# Altium integrated library Analog Devices Data Converters Digital-to-Analog Converters.IntLib: 2231 symbols (part 153 of 181)
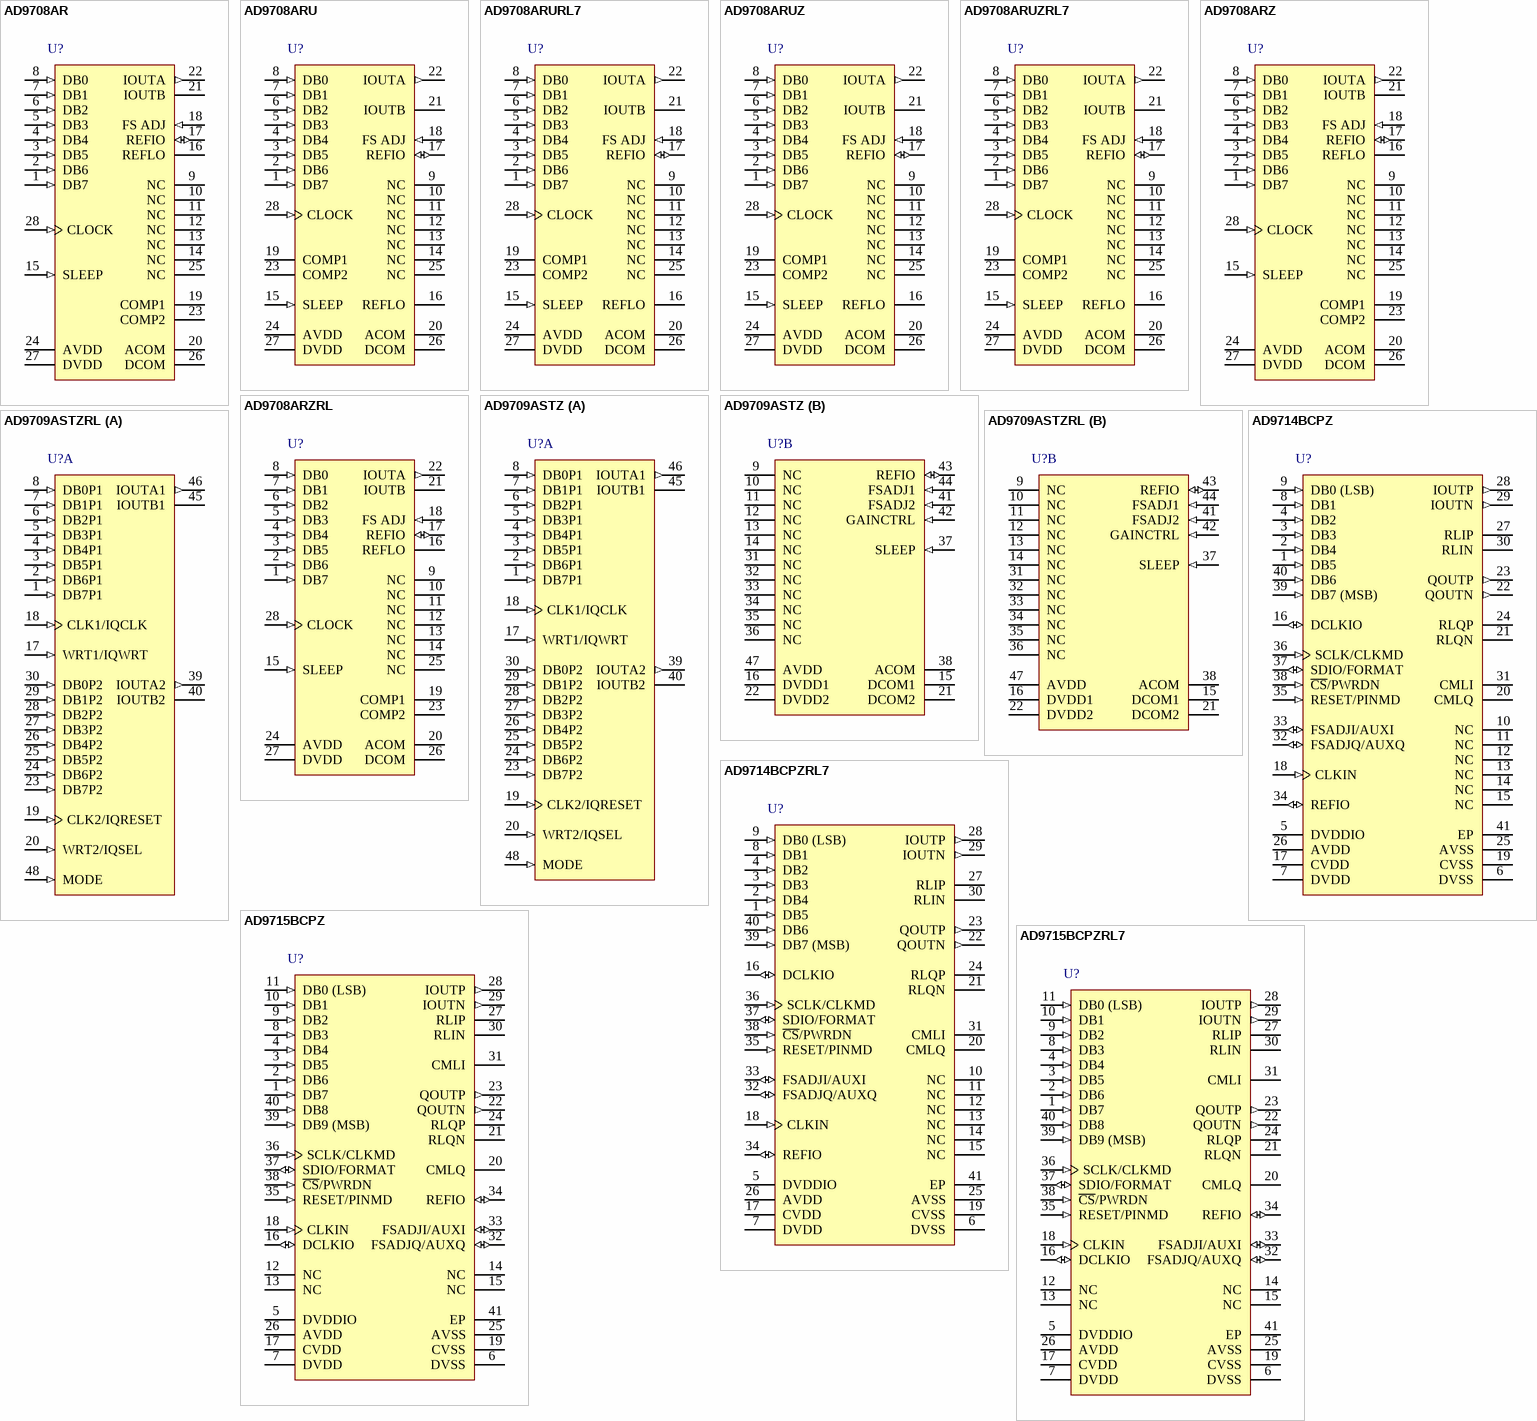
[diagram p266: symbols AD9708AR to AD9715BCPZRL7]

## AD9715BCPZRL7
designator U?
Dual Low Power 10-Bit TxDAC, 0 to +70 degC, CP-40-1, Pb-Free, Reel; Generic Part Number: AD9715; Manufacturer: Analog Devices; PartNumber: AD9715BCPZRL7; # DAC Outputs: 2; Max V+: 3.3V; Resolution (Bits): 10; Single Supply: Yes; DatasheetVersion: Rev.A; PackageVersion: Oct-2006; PackageReference: CP-40-1; PackageDescription: 40-Pin Lead Frame Chip Scale Package [LFCSP_VQ] Very Thin Quad; Supplier 1: Digi-Key; Supplier Part Number 1: AD9715BCPZRL7-ND; Supplier 2: Mouser; Supplier Part Number 2: 584-AD9715BCPZR7; Packing: Reel; RoHS: Y; Mounting Technology: Surface Mount; Code_JEDEC: MO-220-VJJD-2; ComponentLink1Description: Manufacturer URL; ComponentLink1URL: http://www.analog.com/en/index.html; ComponentLink2Description: Datasheet; ComponentLink2URL: http://www.analog.com/static/imported-files/data_sheets/AD9714_9715_9716_9717.pdf; ComponentLink3Description: Package Specification; ComponentLink3URL: http://www.analog.com/static/imported-files/packages/PKG_PDF/LFCSP(CP)/CP_40_1.pdf; ComponentLink4Description: Product URL; ComponentLink4URL: http://www.analog.com/en/digital-to-analog-converters/da-converters/ad9715/products/product.html
footprint CP-40-1_N (QFN, 40-Leads, Body 6x6mm, Pitch 0.5mm, Thermal Pad 4.3x4.3mm, IPC Medium Density)
footprint CP-40-1_L (QFN, 40-Leads, Body 6x6mm, Pitch 0.5mm, Thermal Pad 4.3x4.3mm, IPC High Density)
footprint CP-40-1_M (QFN, 40-Leads, Body 6x6mm, Pitch 0.5mm, Thermal Pad 4.3x4.3mm, IPC Low Density)
pins: 1 DB7 (in) "Digital Input.", 2 DB6 (in) "Digital Input.", 3 DB5 (in) "Digital Input.", 4 DB4 (in) "Digital Input.", 5 DVDDIO (power) "Digital I/O Supply Voltage (1.8 V to 3.3 V Nominal).", 6 DVSS (power) "Digital Common.", 7 DVDD (power) "Digital Core Supply Voltage (1.8 V). Strap DVDD to DVDDIO at 1.8 V. If DVDDIO > 1.8 V, bypass DVDD with a 1.0 uF capacitor; however, do not otherwise connect it. The LDO should not drive external loads.", 8 DB3 (in) "Digital Input.", 9 DB2 (in) "Digital Input.", 10 DB1 (in) "Digital Input.", 11 DB0 (LSB) (in) "Digital Input (LSB).", 12 NC "No Connect. These pins are not connected to the chip.", 13 NC "No Connect. These pins are not connected to the chip.", 14 NC "No Connect. These pins are not connected to the chip.", 15 NC "No Connect. These pins are not connected to the chip.", 16 DCLKIO (io) "Data Input/Output Clock. Clock used to qualify input data.", 17 CVDD (power) "Sampling Clock Supply Voltage (1.8 V to 3.3 V). CVDD must be >= DVDD.", 18 CLKIN (in) "LVCMOS Sampling Clock Input.", 19 CVSS (power) "Sampling Clock Supply Voltage Common.", 20 CMLQ "Q DAC Output Common-Mode Level. When the internal on chip (QRCML) is enabled, this pin is connected to the on-chip QRCML resistor. It is recommended to leave this pin unconnected. When the internal on chip (QRCML) is (See Datasheet)", 21 RLQN "Load Resistor (500 ohm) to the CMLQ Pin. For the internal load resistor to be used, this pin should be tied to QOUTN externally.", 22 QOUTN (out) "Complementary Q DAC Current Output. Full-scale current is sourced when all data bits are 0s.", 23 QOUTP (out) "Q DAC Current Output. Full-scale current is sourced when all data bits are 1s.", 24 RLQP "Load Resistor (500 ohm) to the CMLQ Pin. For the internal load resistor to be used, this pin should be tied to QOUTP externally.", 25 AVSS (power) "Analog Common.", 26 AVDD (power) "Analog Supply Voltage (1.8 V to 3.3 V).", 27 RLIP "Load Resistor (500 ohm) to the CMLI Pin. For the internal load resistor to be used, this pin should be tied to IOUTP externally.", 28 IOUTP (out) "I DAC Current Output. Full-scale current is sourced when all data bits are 1s.", 29 IOUTN (out) "Complementary I DAC Current Output. Full-scale current is sourced when all data bits are 0s.", 30 RLIN "Load Resistor (500 ohm) to the CMLI Pin. For the internal load resistor to be used, this pin should be tied to IOUTN externally.", 31 CMLI "I DAC Output Common-Mode Level. When the internal on chip (IRCML) is enabled, this pin is connected to the on-chip IRCML resistor. It is recommended to leave this pin unconnected. When the internal on chip (IRCML) is (See Datasheet)", 32 FSADJQ/AUXQ (io) "Full-Scale Current Output Adjust (FSADJQ). When the internal on chip (QRSET) is disabled, this pin is the full- scale current output adjust for Q DAC and must be connected to AVSS through a resistor (see the Theory of (See Datasheet)", 33 FSADJI/AUXI (io) "Full-Scale Current Output Adjust (FSADJI). When the internal on chip (IRSET) is disabled, this pin is the full- scale current output adjust for I DAC and must be connected to AVSS through a resistor (see the Theory of (See Datasheet)", 34 REFIO (io) "Reference Input/Output. Serves as a reference input when the internal reference is disabled. Provides a 1.0 V reference output when in internal reference mode (a 0.1 uF capacitor to AVSS is required).", 35 RESET/PINMD (in) "This pin defines the operation mode of the part. A logic low (pull-down to DVSS) sets the part in SPI mode. Pulse RESET high to reset the SPI registers to their default values. A logic high (pull-up to DVDDIO) puts the (See Datasheet)", 36 SCLK/CLKMD (in) "Clock Input for Serial Port (SCLK). In SPI mode, this pin is the clock input for the serial port. Clock Mode (CLKMD). In pin mode, CLKMD determines the phase of the internal retiming clock. When DCLKIO = CLKIN, tie it to 0. (See Datasheet)", 37 SDIO/FORMAT (io) "Serial Port Input/Output (SDIO). In SPI mode, this pin is the bidirectional data line for the serial port. Format Pin (FORMAT). In pin mode, FORMAT determines the data format of digital data. A logic low (pull-down to DVSS) (See Datasheet)", 38 ~{CS}/PWRDN (in) "Active Low Chip Select (C\S\). In SPI mode, this pin serves as the active low chip select. Power-Down (PWRDN). In pin mode, a logic high (pull-up to DVDDIO) powers down the device, except for the SPI port.", 39 DB9 (MSB) (in) "Digital Input (MSB).", 40 DB8 (in) "Digital Input.", 41 EP (power) "The exposed pad is connected to AVSS and should be soldered to the ground plane. Exposed metal at the package corners is connected to this pad."

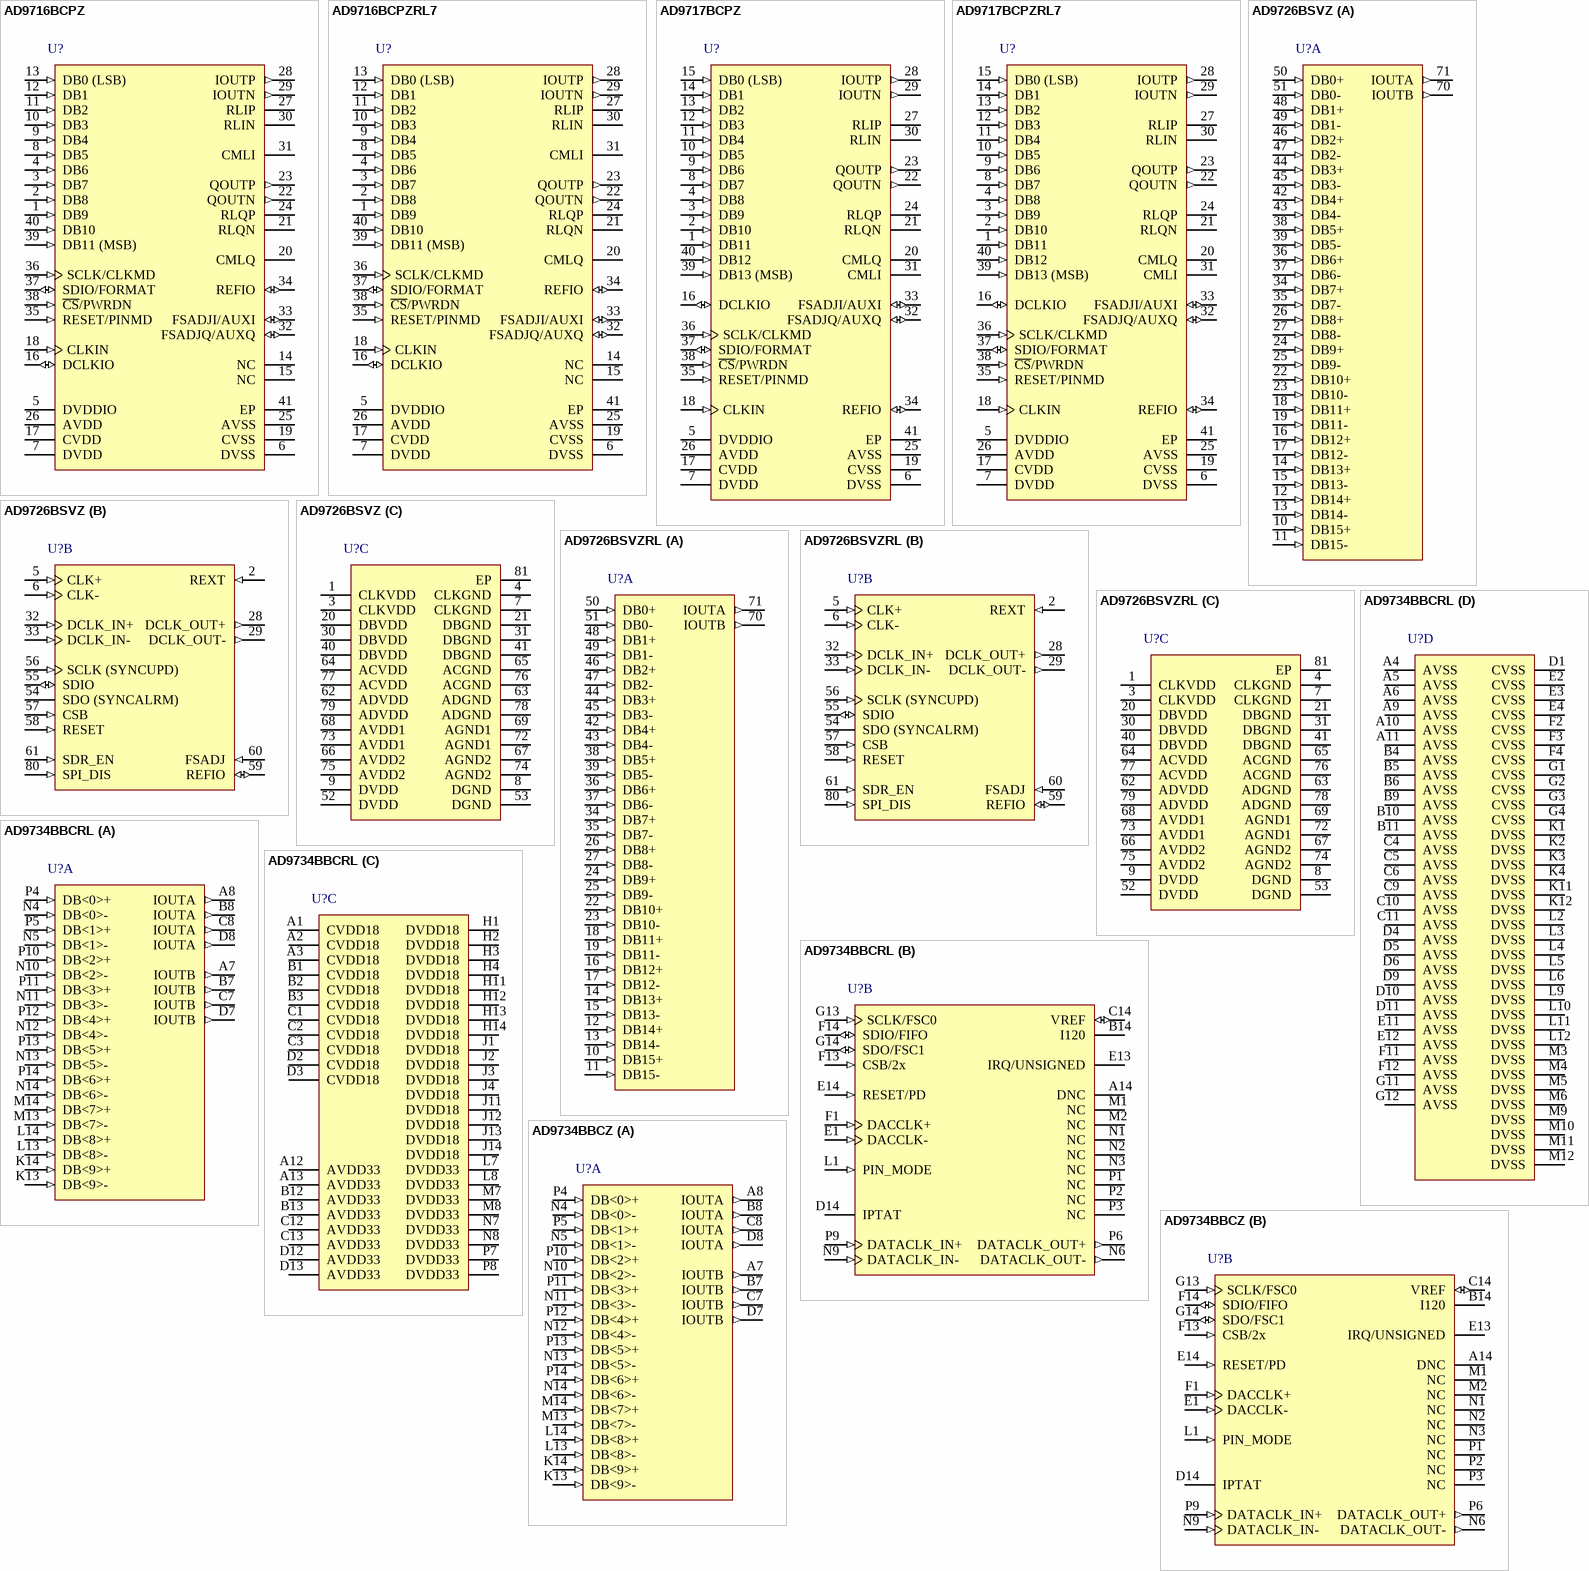
[diagram p88: symbols AD9716BCPZ to AD9734BBCZ]

## AD9716BCPZ
designator U?
Dual 12-Bit TxDAC, 0 to +70 degC, CP-40-1, Pb-Free, Tray; Generic Part Number: AD9716; Manufacturer: Analog Devices; PartNumber: AD9716BCPZ; # DAC Outputs: 2; Max V+: 3.3V; Resolution (Bits): 12; Single Supply: Yes; DatasheetVersion: Rev.A; PackageVersion: Oct-2006; PackageReference: CP-40-1; PackageDescription: 40-Pin Lead Frame Chip Scale Package [LFCSP_VQ] Very Thin Quad; Supplier 1: Digi-Key; Supplier Part Number 1: AD9716BCPZ-ND; Supplier 2: Newark; Supplier Part Number 2: 07P9006; Supplier 3: Mouser; Supplier Part Number 3: 584-AD9716BCPZ; Packing: Tray; RoHS: Y; Mounting Technology: Surface Mount; Code_JEDEC: MO-220-VJJD-2; ComponentLink1Description: Manufacturer URL; ComponentLink1URL: http://www.analog.com/en/index.html; ComponentLink2Description: Datasheet; ComponentLink2URL: http://www.analog.com/static/imported-files/data_sheets/AD9714_9715_9716_9717.pdf; ComponentLink3Description: Package Specification; ComponentLink3URL: http://www.analog.com/static/imported-files/packages/PKG_PDF/LFCSP(CP)/CP_40_1.pdf; ComponentLink4Description: Product URL; ComponentLink4URL: http://www.analog.com/en/digital-to-analog-converters/da-converters/ad9716/products/product.html
footprint CP-40-1_N (QFN, 40-Leads, Body 6x6mm, Pitch 0.5mm, Thermal Pad 4.3x4.3mm, IPC Medium Density)
footprint CP-40-1_L (QFN, 40-Leads, Body 6x6mm, Pitch 0.5mm, Thermal Pad 4.3x4.3mm, IPC High Density)
footprint CP-40-1_M (QFN, 40-Leads, Body 6x6mm, Pitch 0.5mm, Thermal Pad 4.3x4.3mm, IPC Low Density)
pins: 1 DB9 (in) "Digital Input.", 2 DB8 (in) "Digital Input.", 3 DB7 (in) "Digital Input.", 4 DB6 (in) "Digital Input.", 5 DVDDIO (power) "Digital I/O Supply Voltage (1.8 V to 3.3 V Nominal).", 6 DVSS (power) "Digital Common.", 7 DVDD (power) "Digital Core Supply Voltage (1.8 V). Strap DVDD to DVDDIO at 1.8 V. If DVDDIO > 1.8 V, bypass DVDD with a 1.0 uF capacitor; however, do not otherwise connect it. The LDO should not drive external loads.", 8 DB5 (in) "Digital Input.", 9 DB4 (in) "Digital Input.", 10 DB3 (in) "Digital Input.", 11 DB2 (in) "Digital Input.", 12 DB1 (in) "Digital Input.", 13 DB0 (LSB) (in) "Digital Input (LSB).", 14 NC "No Connect. These pins are not connected to the chip.", 15 NC "No Connect. These pins are not connected to the chip.", 16 DCLKIO (io) "Data Input/Output Clock. Clock used to qualify input data.", 17 CVDD (power) "Sampling Clock Supply Voltage (1.8 V to 3.3 V). CVDD must be >= DVDD.", 18 CLKIN (in) "LVCMOS Sampling Clock Input.", 19 CVSS (power) "Sampling Clock Supply Voltage Common.", 20 CMLQ "Q DAC Output Common-Mode Level. When the internal on chip (QRCML) is enabled, this pin is connected to the on-chip QRCML resistor. It is recommended to leave this pin unconnected. When the internal on chip (QRCML) is (See Datasheet)", 21 RLQN "Load Resistor (500 ohm) to the CMLQ Pin. For the internal load resistor to be used, this pin should be tied to QOUTN externally.", 22 QOUTN (out) "Complementary Q DAC Current Output. Full-scale current is sourced when all data bits are 0s.", 23 QOUTP (out) "Q DAC Current Output. Full-scale current is sourced when all data bits are 1s.", 24 RLQP "Load Resistor (500 ohm) to the CMLQ Pin. For the internal load resistor to be used, this pin should be tied to QOUTP externally.", 25 AVSS (power) "Analog Common.", 26 AVDD (power) "Analog Supply Voltage (1.8 V to 3.3 V).", 27 RLIP "Load Resistor (500 ohm) to the CMLI Pin. For the internal load resistor to be used, this pin should be tied to IOUTP externally.", 28 IOUTP (out) "I DAC Current Output. Full-scale current is sourced when all data bits are 1s.", 29 IOUTN (out) "Complementary I DAC Current Output. Full-scale current is sourced when all data bits are 0s.", 30 RLIN "Load Resistor (500 ohm) to the CMLI Pin. For the internal load resistor to be used, this pin should be tied to IOUTN externally.", 31 CMLI "I DAC Output Common-Mode Level. When the internal on chip (IRCML) is enabled, this pin is connected to the on-chip IRCML resistor. It is recommended to leave this pin unconnected. When the internal on chip (IRCML) is (See Datasheet)", 32 FSADJQ/AUXQ (io) "Full-Scale Current Output Adjust (FSADJQ). When the internal on chip (QRSET) is disabled, this pin is the full- scale current output adjust for Q DAC and must be connected to AVSS through a resistor (see the Theory of (See Datasheet)", 33 FSADJI/AUXI (io) "Full-Scale Current Output Adjust (FSADJI). When the internal on chip (IRSET) is disabled, this pin is the full- scale current output adjust for I DAC and must be connected to AVSS through a resistor (see the Theory of (See Datasheet)", 34 REFIO (io) "Reference Input/Output. Serves as a reference input when the internal reference is disabled. Provides a 1.0 V reference output when in internal reference mode (a 0.1 uF capacitor to AVSS is required).", 35 RESET/PINMD (in) "This pin defines the operation mode of the part. A logic low (pull-down to DVSS) sets the part in SPI mode. Pulse RESET high to reset the SPI registers to their default values. A logic high (pull-up to DVDDIO) puts the (See Datasheet)", 36 SCLK/CLKMD (in) "Clock Input for Serial Port (SCLK). In SPI mode, this pin is the clock input for the serial port. Clock Mode (CLKMD). In pin mode, CLKMD determines the phase of the internal retiming clock. When DCLKIO = CLKIN, tie it to 0. (See Datasheet)", 37 SDIO/FORMAT (io) "Serial Port Input/Output (SDIO). In SPI mode, this pin is the bidirectional data line for the serial port. Format Pin (FORMAT). In pin mode, FORMAT determines the data format of digital data. A logic low (pull-down to DVSS) (See Datasheet)", 38 ~{CS}/PWRDN (in) "Active Low Chip Select (C\S\). In SPI mode, this pin serves as the active low chip select. Power-Down (PWRDN). In pin mode, a logic high (pull-up to DVDDIO) powers down the device, except for the SPI port.", 39 DB11 (MSB) (in) "Digital Input (MSB).", 40 DB10 (in) "Digital Input.", 41 EP (power) "The exposed pad is connected to AVSS and should be soldered to the ground plane. Exposed metal at the package corners is connected to this pad."

## AD9716BCPZRL7
designator U?
Dual 12-Bit TxDAC Digital-to-Analog Converte, Low Power, 0 to +70 degC, CP-40-1, Pb-Free, Reel; Generic Part Number: AD9716; Manufacturer: Analog Devices; PartNumber: AD9716BCPZRL7; # DAC Outputs: 2; Max V+: 3.3V; Resolution (Bits): 12; Single Supply: Yes; DatasheetVersion: Rev.A; PackageVersion: Oct-2006; PackageReference: CP-40-1; PackageDescription: 40-Pin Lead Frame Chip Scale Package [LFCSP_VQ] Very Thin Quad; Supplier 1: Digi-Key; Supplier Part Number 1: AD9716BCPZRL7-ND; Supplier 2: Mouser; Supplier Part Number 2: 584-AD9716BCPZR7; Packing: Reel; RoHS: Y; Mounting Technology: Surface Mount; Code_JEDEC: MO-220-VJJD-2; ComponentLink1Description: Manufacturer URL; ComponentLink1URL: http://www.analog.com/en/index.html; ComponentLink2Description: Datasheet; ComponentLink2URL: http://www.analog.com/static/imported-files/data_sheets/AD9714_9715_9716_9717.pdf; ComponentLink3Description: Package Specification; ComponentLink3URL: http://www.analog.com/static/imported-files/packages/PKG_PDF/LFCSP(CP)/CP_40_1.pdf; ComponentLink4Description: Product URL; ComponentLink4URL: http://www.analog.com/en/digital-to-analog-converters/da-converters/ad9716/products/product.html
footprint CP-40-1_N (QFN, 40-Leads, Body 6x6mm, Pitch 0.5mm, Thermal Pad 4.3x4.3mm, IPC Medium Density)
footprint CP-40-1_L (QFN, 40-Leads, Body 6x6mm, Pitch 0.5mm, Thermal Pad 4.3x4.3mm, IPC High Density)
footprint CP-40-1_M (QFN, 40-Leads, Body 6x6mm, Pitch 0.5mm, Thermal Pad 4.3x4.3mm, IPC Low Density)
pins: 1 DB9 (in) "Digital Input.", 2 DB8 (in) "Digital Input.", 3 DB7 (in) "Digital Input.", 4 DB6 (in) "Digital Input.", 5 DVDDIO (power) "Digital I/O Supply Voltage (1.8 V to 3.3 V Nominal).", 6 DVSS (power) "Digital Common.", 7 DVDD (power) "Digital Core Supply Voltage (1.8 V). Strap DVDD to DVDDIO at 1.8 V. If DVDDIO > 1.8 V, bypass DVDD with a 1.0 uF capacitor; however, do not otherwise connect it. The LDO should not drive external loads.", 8 DB5 (in) "Digital Input.", 9 DB4 (in) "Digital Input.", 10 DB3 (in) "Digital Input.", 11 DB2 (in) "Digital Input.", 12 DB1 (in) "Digital Input.", 13 DB0 (LSB) (in) "Digital Input (LSB).", 14 NC "No Connect. These pins are not connected to the chip.", 15 NC "No Connect. These pins are not connected to the chip.", 16 DCLKIO (io) "Data Input/Output Clock. Clock used to qualify input data.", 17 CVDD (power) "Sampling Clock Supply Voltage (1.8 V to 3.3 V). CVDD must be >= DVDD.", 18 CLKIN (in) "LVCMOS Sampling Clock Input.", 19 CVSS (power) "Sampling Clock Supply Voltage Common.", 20 CMLQ "Q DAC Output Common-Mode Level. When the internal on chip (QRCML) is enabled, this pin is connected to the on-chip QRCML resistor. It is recommended to leave this pin unconnected. When the internal on chip (QRCML) is (See Datasheet)", 21 RLQN "Load Resistor (500 ohm) to the CMLQ Pin. For the internal load resistor to be used, this pin should be tied to QOUTN externally.", 22 QOUTN (out) "Complementary Q DAC Current Output. Full-scale current is sourced when all data bits are 0s.", 23 QOUTP (out) "Q DAC Current Output. Full-scale current is sourced when all data bits are 1s.", 24 RLQP "Load Resistor (500 ohm) to the CMLQ Pin. For the internal load resistor to be used, this pin should be tied to QOUTP externally.", 25 AVSS (power) "Analog Common.", 26 AVDD (power) "Analog Supply Voltage (1.8 V to 3.3 V).", 27 RLIP "Load Resistor (500 ohm) to the CMLI Pin. For the internal load resistor to be used, this pin should be tied to IOUTP externally.", 28 IOUTP (out) "I DAC Current Output. Full-scale current is sourced when all data bits are 1s.", 29 IOUTN (out) "Complementary I DAC Current Output. Full-scale current is sourced when all data bits are 0s.", 30 RLIN "Load Resistor (500 ohm) to the CMLI Pin. For the internal load resistor to be used, this pin should be tied to IOUTN externally.", 31 CMLI "I DAC Output Common-Mode Level. When the internal on chip (IRCML) is enabled, this pin is connected to the on-chip IRCML resistor. It is recommended to leave this pin unconnected. When the internal on chip (IRCML) is (See Datasheet)", 32 FSADJQ/AUXQ (io) "Full-Scale Current Output Adjust (FSADJQ). When the internal on chip (QRSET) is disabled, this pin is the full- scale current output adjust for Q DAC and must be connected to AVSS through a resistor (see the Theory of (See Datasheet)", 33 FSADJI/AUXI (io) "Full-Scale Current Output Adjust (FSADJI). When the internal on chip (IRSET) is disabled, this pin is the full- scale current output adjust for I DAC and must be connected to AVSS through a resistor (see the Theory of (See Datasheet)", 34 REFIO (io) "Reference Input/Output. Serves as a reference input when the internal reference is disabled. Provides a 1.0 V reference output when in internal reference mode (a 0.1 uF capacitor to AVSS is required).", 35 RESET/PINMD (in) "This pin defines the operation mode of the part. A logic low (pull-down to DVSS) sets the part in SPI mode. Pulse RESET high to reset the SPI registers to their default values. A logic high (pull-up to DVDDIO) puts the (See Datasheet)", 36 SCLK/CLKMD (in) "Clock Input for Serial Port (SCLK). In SPI mode, this pin is the clock input for the serial port. Clock Mode (CLKMD). In pin mode, CLKMD determines the phase of the internal retiming clock. When DCLKIO = CLKIN, tie it to 0. (See Datasheet)", 37 SDIO/FORMAT (io) "Serial Port Input/Output (SDIO). In SPI mode, this pin is the bidirectional data line for the serial port. Format Pin (FORMAT). In pin mode, FORMAT determines the data format of digital data. A logic low (pull-down to DVSS) (See Datasheet)", 38 ~{CS}/PWRDN (in) "Active Low Chip Select (C\S\). In SPI mode, this pin serves as the active low chip select. Power-Down (PWRDN). In pin mode, a logic high (pull-up to DVDDIO) powers down the device, except for the SPI port.", 39 DB11 (MSB) (in) "Digital Input (MSB).", 40 DB10 (in) "Digital Input.", 41 EP (power) "The exposed pad is connected to AVSS and should be soldered to the ground plane. Exposed metal at the package corners is connected to this pad."

## AD9717BCPZ
designator U?
Dual 14-Bit TxDAC, 0 to +70 degC, CP-40-1, Pb-Free, Tray; Generic Part Number: AD9717; Manufacturer: Analog Devices; PartNumber: AD9717BCPZ; # DAC Outputs: 2; Max V+: 3.3V; Resolution (Bits): 14; Single Supply: Yes; DatasheetVersion: Rev.A; PackageVersion: Oct-2006; PackageReference: CP-40-1; PackageDescription: 40-Pin Lead Frame Chip Scale Package [LFCSP_VQ] Very Thin Quad; Supplier 1: Digi-Key; Supplier Part Number 1: AD9717BCPZ-ND; Supplier 2: Farnell; Supplier Part Number 2: 2099725; Supplier 3: Newark; Supplier Part Number 3: 94T3058; Supplier 4: Newark; Supplier Part Number 4: 07P9009; Supplier 5: Mouser; Supplier Part Number 5: 584-AD9717BCPZ; Packing: Tray; RoHS: Y; Mounting Technology: Surface Mount; Code_JEDEC: MO-220-VJJD-2; ComponentLink1Description: Manufacturer URL; ComponentLink1URL: http://www.analog.com/en/index.html; ComponentLink2Description: Datasheet; ComponentLink2URL: http://www.analog.com/static/imported-files/data_sheets/AD9714_9715_9716_9717.pdf; ComponentLink3Description: Package Specification; ComponentLink3URL: http://www.analog.com/static/imported-files/packages/PKG_PDF/LFCSP(CP)/CP_40_1.pdf; ComponentLink4Description: Product URL; ComponentLink4URL: http://www.analog.com/en/digital-to-analog-converters/da-converters/ad9717/products/product.html
footprint CP-40-1_N (QFN, 40-Leads, Body 6x6mm, Pitch 0.5mm, Thermal Pad 4.3x4.3mm, IPC Medium Density)
footprint CP-40-1_L (QFN, 40-Leads, Body 6x6mm, Pitch 0.5mm, Thermal Pad 4.3x4.3mm, IPC High Density)
footprint CP-40-1_M (QFN, 40-Leads, Body 6x6mm, Pitch 0.5mm, Thermal Pad 4.3x4.3mm, IPC Low Density)
pins: 1 DB11 (in) "Digital Input", 2 DB10 (in) "Digital Input", 3 DB9 (in) "Digital Input", 4 DB8 (in) "Digital Input", 5 DVDDIO (power) "Digital I/O Supply Voltage (1.8 V to 3.3 V Nominal).", 6 DVSS (power) "Digital Common.", 7 DVDD (power) "Digital Core Supply Voltage (1.8 V). Strap DVDD to DVDDIO at 1.8 V. If DVDDIO > 1.8 V, bypass DVDD with a 1.0 uF capacitor; however, do not otherwise connect it. The LDO should not drive external loads.", 8 DB7 (in) "Digital Input", 9 DB6 (in) "Digital Input", 10 DB5 (in) "Digital Input", 11 DB4 (in) "Digital Input", 12 DB3 (in) "Digital Input", 13 DB2 (in) "Digital Input", 14 DB1 (in) "Digital Input", 15 DB0 (LSB) (in) "Digital Input (LSB).", 16 DCLKIO (io) "Data Input/Output Clock. Clock used to qualify input data.", 17 CVDD (power) "Sampling Clock Supply Voltage (1.8 V to 3.3 V). CVDD must be >= DVDD.", 18 CLKIN (in) "LVCMOS Sampling Clock Input.", 19 CVSS (power) "Sampling Clock Supply Voltage Common.", 20 CMLQ "Q DAC Output Common-Mode Level. When the internal on chip (QRCML) is enabled, this pin is connected to the on-chip QRCML resistor. It is recommended to leave this pin unconnected. When the internal on chip (QRCML) is (See Datasheet)", 21 RLQN "Load Resistor (500 ohm) to the CMLQ Pin. For the internal load resistor to be used, this pin should be tied to QOUTN externally.", 22 QOUTN (out) "Complementary Q DAC Current Output. Full-scale current is sourced when all data bits are 0s.", 23 QOUTP (out) "Q DAC Current Output. Full-scale current is sourced when all data bits are 1s.", 24 RLQP "Load Resistor (500 ohm) to the CMLQ Pin. For the internal load resistor to be used, this pin should be tied to QOUTP externally.", 25 AVSS (power) "Analog Common.", 26 AVDD (power) "Analog Supply Voltage (1.8 V to 3.3 V).", 27 RLIP "Load Resistor (500 ohm) to the CMLI Pin. For the internal load resistor to be used, this pin should be tied to IOUTP externally.", 28 IOUTP (out) "I DAC Current Output. Full-scale current is sourced when all data bits are 1s.", 29 IOUTN (out) "Complementary I DAC Current Output. Full-scale current is sourced when all data bits are 0s.", 30 RLIN "Load Resistor (500 ohm) to the CMLI Pin. For the internal load resistor to be used, this pin should be tied to IOUTN externally.", 31 CMLI "I DAC Output Common-Mode Level. When the internal on chip (IRCML) is enabled, this pin is connected to the on-chip IRCML resistor. It is recommended to leave this pin unconnected. When the internal on chip (IRCML) is (See Datasheet)", 32 FSADJQ/AUXQ (io) "Full-Scale Current Output Adjust (FSADJQ). When the internal on chip (QRSET) is disabled, this pin is the full-scale current output adjust for Q DAC and must be connected to AVSS through a resistor (see the Theory of (See Datasheet)", 33 FSADJI/AUXI (io) "Full-Scale Current Output Adjust (FSADJI). When the internal on chip (IRSET) is disabled, this pin is the full-scale current output adjust for I DAC and must be connected to AVSS through a resistor (see the Theory of (See Datasheet)", 34 REFIO (io) "Reference Input/Output. Serves as a reference input when the internal reference is disabled. Provides a 1.0 V reference output when in internal reference mode (a 0.1 uF capacitor to AVSS is required).", 35 RESET/PINMD (in) "This pin defines the operation mode of the part. A logic low (pull-down to DVSS) sets the part in SPI mode. Pulse RESET high to reset the SPI registers to their default values. A logic high (pull-up to DVDDIO) puts the (See Datasheet)", 36 SCLK/CLKMD (in) "Clock Input for Serial Port (SCLK). In SPI mode, this pin is the clock input for the serial port. Clock Mode (CLKMD). In pin mode, CLKMD determines the phase of the internal retiming clock. When DCLKIO = CLKIN, tie it to 0. (See Datasheet)", 37 SDIO/FORMAT (io) "Serial Port Input/Output (SDIO). In SPI mode, this pin is the bidirectional data line for the serial port. Format Pin (FORMAT). In pin mode, FORMAT determines the data format of digital data. A logic low (pull-down to DVSS) (See Datasheet)", 38 ~{CS}/PWRDN (in) "Active Low Chip Select (C\S\). In SPI mode, this pin serves as the active low chip select. Power-Down (PWRDN). In pin mode, a logic high (pull-up to DVDDIO) powers down the device, except for the SPI port.", 39 DB13 (MSB) (in) "Digital Input (MSB).", 40 DB12 (in) "Digital Input", 41 EP (power) "The exposed pad is connected to AVSS and should be soldered to the ground plane. Exposed metal at the package corners is connected to this pad."

## AD9717BCPZRL7
designator U?
Dual 14-Bit TxDAC, 0 to +70 degC, CP-40-1, Pb-Free, Reel; Generic Part Number: AD9717; Manufacturer: Analog Devices; PartNumber: AD9717BCPZRL7; # DAC Outputs: 2; Max V+: 3.3V; Resolution (Bits): 14; Single Supply: Yes; DatasheetVersion: Rev.A; PackageVersion: Oct-2006; PackageReference: CP-40-1; PackageDescription: 40-Pin Lead Frame Chip Scale Package [LFCSP_VQ] Very Thin Quad; Supplier 1: Digi-Key; Supplier Part Number 1: AD9717BCPZRL7-ND; Supplier 2: Newark; Supplier Part Number 2: 07P9010; Supplier 3: Mouser; Supplier Part Number 3: 584-AD9717BCPZR7; Packing: Reel; RoHS: Y; Mounting Technology: Surface Mount; Code_JEDEC: MO-220-VJJD-2; ComponentLink1Description: Manufacturer URL; ComponentLink1URL: http://www.analog.com/en/index.html; ComponentLink2Description: Datasheet; ComponentLink2URL: http://www.analog.com/static/imported-files/data_sheets/AD9714_9715_9716_9717.pdf; ComponentLink3Description: Package Specification; ComponentLink3URL: http://www.analog.com/static/imported-files/packages/PKG_PDF/LFCSP(CP)/CP_40_1.pdf; ComponentLink4Description: Product URL; ComponentLink4URL: http://www.analog.com/en/digital-to-analog-converters/da-converters/ad9717/products/product.html
footprint CP-40-1_N (QFN, 40-Leads, Body 6x6mm, Pitch 0.5mm, Thermal Pad 4.3x4.3mm, IPC Medium Density)
footprint CP-40-1_L (QFN, 40-Leads, Body 6x6mm, Pitch 0.5mm, Thermal Pad 4.3x4.3mm, IPC High Density)
footprint CP-40-1_M (QFN, 40-Leads, Body 6x6mm, Pitch 0.5mm, Thermal Pad 4.3x4.3mm, IPC Low Density)
pins: 1 DB11 (in) "Digital Input", 2 DB10 (in) "Digital Input", 3 DB9 (in) "Digital Input", 4 DB8 (in) "Digital Input", 5 DVDDIO (power) "Digital I/O Supply Voltage (1.8 V to 3.3 V Nominal).", 6 DVSS (power) "Digital Common.", 7 DVDD (power) "Digital Core Supply Voltage (1.8 V). Strap DVDD to DVDDIO at 1.8 V. If DVDDIO > 1.8 V, bypass DVDD with a 1.0 uF capacitor; however, do not otherwise connect it. The LDO should not drive external loads.", 8 DB7 (in) "Digital Input", 9 DB6 (in) "Digital Input", 10 DB5 (in) "Digital Input", 11 DB4 (in) "Digital Input", 12 DB3 (in) "Digital Input", 13 DB2 (in) "Digital Input", 14 DB1 (in) "Digital Input", 15 DB0 (LSB) (in) "Digital Input (LSB).", 16 DCLKIO (io) "Data Input/Output Clock. Clock used to qualify input data.", 17 CVDD (power) "Sampling Clock Supply Voltage (1.8 V to 3.3 V). CVDD must be >= DVDD.", 18 CLKIN (in) "LVCMOS Sampling Clock Input.", 19 CVSS (power) "Sampling Clock Supply Voltage Common.", 20 CMLQ "Q DAC Output Common-Mode Level. When the internal on chip (QRCML) is enabled, this pin is connected to the on-chip QRCML resistor. It is recommended to leave this pin unconnected. When the internal on chip (QRCML) is (See Datasheet)", 21 RLQN "Load Resistor (500 ohm) to the CMLQ Pin. For the internal load resistor to be used, this pin should be tied to QOUTN externally.", 22 QOUTN (out) "Complementary Q DAC Current Output. Full-scale current is sourced when all data bits are 0s.", 23 QOUTP (out) "Q DAC Current Output. Full-scale current is sourced when all data bits are 1s.", 24 RLQP "Load Resistor (500 ohm) to the CMLQ Pin. For the internal load resistor to be used, this pin should be tied to QOUTP externally.", 25 AVSS (power) "Analog Common.", 26 AVDD (power) "Analog Supply Voltage (1.8 V to 3.3 V).", 27 RLIP "Load Resistor (500 ohm) to the CMLI Pin. For the internal load resistor to be used, this pin should be tied to IOUTP externally.", 28 IOUTP (out) "I DAC Current Output. Full-scale current is sourced when all data bits are 1s.", 29 IOUTN (out) "Complementary I DAC Current Output. Full-scale current is sourced when all data bits are 0s.", 30 RLIN "Load Resistor (500 ohm) to the CMLI Pin. For the internal load resistor to be used, this pin should be tied to IOUTN externally.", 31 CMLI "I DAC Output Common-Mode Level. When the internal on chip (IRCML) is enabled, this pin is connected to the on-chip IRCML resistor. It is recommended to leave this pin unconnected. When the internal on chip (IRCML) is (See Datasheet)", 32 FSADJQ/AUXQ (io) "Full-Scale Current Output Adjust (FSADJQ). When the internal on chip (QRSET) is disabled, this pin is the full-scale current output adjust for Q DAC and must be connected to AVSS through a resistor (see the Theory of (See Datasheet)", 33 FSADJI/AUXI (io) "Full-Scale Current Output Adjust (FSADJI). When the internal on chip (IRSET) is disabled, this pin is the full-scale current output adjust for I DAC and must be connected to AVSS through a resistor (see the Theory of (See Datasheet)", 34 REFIO (io) "Reference Input/Output. Serves as a reference input when the internal reference is disabled. Provides a 1.0 V reference output when in internal reference mode (a 0.1 uF capacitor to AVSS is required).", 35 RESET/PINMD (in) "This pin defines the operation mode of the part. A logic low (pull-down to DVSS) sets the part in SPI mode. Pulse RESET high to reset the SPI registers to their default values. A logic high (pull-up to DVDDIO) puts the (See Datasheet)", 36 SCLK/CLKMD (in) "Clock Input for Serial Port (SCLK). In SPI mode, this pin is the clock input for the serial port. Clock Mode (CLKMD). In pin mode, CLKMD determines the phase of the internal retiming clock. When DCLKIO = CLKIN, tie it to 0. (See Datasheet)", 37 SDIO/FORMAT (io) "Serial Port Input/Output (SDIO). In SPI mode, this pin is the bidirectional data line for the serial port. Format Pin (FORMAT). In pin mode, FORMAT determines the data format of digital data. A logic low (pull-down to DVSS) (See Datasheet)", 38 ~{CS}/PWRDN (in) "Active Low Chip Select (C\S\). In SPI mode, this pin serves as the active low chip select. Power-Down (PWRDN). In pin mode, a logic high (pull-up to DVDDIO) powers down the device, except for the SPI port.", 39 DB13 (MSB) (in) "Digital Input (MSB).", 40 DB12 (in) "Digital Input", 41 EP (power) "The exposed pad is connected to AVSS and should be soldered to the ground plane. Exposed metal at the package corners is connected to this pad."

## AD9726BSVZ
designator U?
Single 16-Bit Digital-to-Analog Converter, -40 to +85 degC, SV-80-1, Pb-Free, Tray; Generic Part Number: AD9726; Manufacturer: Analog Devices; PartNumber: AD9726BSVZ; # DAC Outputs: 1; Max V+: 3.47V; Op Pwr Diss: 652mW; Resolution (Bits): 16; Settling Time: 10.5ns; Single Supply: No; DatasheetVersion: Rev.B; PackageVersion: Oct-2005; PackageReference: SV-80-1; PackageDescription: 80-Lead Thin Quad Flat Package, Exposed Pad [TQFP_EP]; Supplier 1: Digi-Key; Supplier Part Number 1: AD9726BSVZ-ND; Supplier 2: Farnell; Supplier Part Number 2: 1117883; Supplier 3: Newark; Supplier Part Number 3: 59K7323; Supplier 4: Mouser; Supplier Part Number 4: 584-AD9726BSVZ; Packing: Tray; RoHS: Y; Mounting Technology: Surface Mount; Code_JEDEC: MS-026-ADD-HD; ComponentLink1Description: Manufacturer URL; ComponentLink1URL: http://www.analog.com/en/index.html; ComponentLink2Description: Datasheet; ComponentLink2URL: http://www.analog.com/static/imported-files/data_sheets/AD9726.pdf; ComponentLink3Description: Package Specification; ComponentLink3URL: http://www.analog.com/static/imported-files/packages/3250240192292635369SV_80_1.pdf; ComponentLink4Description: Product URL; ComponentLink4URL: http://www.analog.com/en/digital-to-analog-converters/da-converters/ad9726/products/product.html
footprint SV-80-1_N (Thin QFP, 80-Leads, Body 12x12mm, Pitch 0.5mm, Thermal Pad 6x6mm, IPC Medium Density)
footprint SV-80-1_L (Thin QFP, 80-Leads, Body 12x12mm, Pitch 0.5mm, Thermal Pad 6x6mm, IPC High Density)
footprint SV-80-1_M (Thin QFP, 80-Leads, Body 12x12mm, Pitch 0.5mm, Thermal Pad 6x6mm, IPC Low Density)
part A pins: 10 DB15+ (in) "Data Bit 15 True", 11 DB15- (in) "Data Bit 15 Complement", 12 DB14+ (in) "Data Bit 14 True", 13 DB14- (in) "Data Bit 14 Complement", 14 DB13+ (in) "Data Bit 13 True", 15 DB13- (in) "Data Bit 13 Complement", 16 DB12+ (in) "Data Bit 12 True", 17 DB12- (in) "Data Bit 12 Complement", 18 DB11+ (in) "Data Bit 11 True", 19 DB11- (in) "Data Bit 11 Complement", 22 DB10+ (in) "Data Bit 10 True", 23 DB10- (in) "Data Bit 10 Complement", 24 DB9+ (in) "Data Bit 9 True", 25 DB9- (in) "Data Bit 9 Complement", 26 DB8+ (in) "Data Bit 8 True", 27 DB8- (in) "Data Bit 8 Complement", 34 DB7+ (in) "Data Bit 7 True", 35 DB7- (in) "Data Bit 7 Complement", 36 DB6+ (in) "Data Bit 6 True", 37 DB6- (in) "Data Bit 6 Complement", 38 DB5+ (in) "Data Bit 5 True", 39 DB5- (in) "Data Bit 5 Complement", 42 DB4+ (in) "Data Bit 4 True", 43 DB4- (in) "Data Bit 4 Complement", 44 DB3+ (in) "Data Bit 3 True", 45 DB3- (in) "Data Bit 3 Complement", 46 DB2+ (in) "Data Bit 2 True", 47 DB2- (in) "Data Bit 2 Complement", 48 DB1+ (in) "Data Bit 1 True", 49 DB1- (in) "Data Bit 1 Complement", 50 DB0+ (in) "Data Bit 0 True", 51 DB0- (in) "Data Bit 0 Complement", 70 IOUTB (out) "Analog Current Output Complement", 71 IOUTA (out) "Analog Current Output True"
part B pins: 2 REXT (in) "Sets Data Clock Output Drive", 5 CLK+ (in) "DAC Clock Input True", 6 CLK- (in) "DAC Clock Input Complement", 28 DCLK_OUT+ (out) "Data Clock Output True", 29 DCLK_OUT- (out) "Data Clock Output Complement", 32 DCLK_IN+ (in) "Data Clock Input True", 33 DCLK_IN- (in) "Data Clock Input Complement", 54 SDO (SYNCALRM) (hiz) "SPI Data Output (SYNCALRM)", 55 SDIO (io) "SPI Data Input/Output", 56 SCLK (SYNCUPD) (in) "SPI Clock Input (SYNCUPD)", 57 CSB (in) "SPI Chip Select Bar (Active Low)", 58 RESET (in) "Hardware Reset (Active High)", 59 REFIO (io) "Internal Reference Input/Output", 60 FSADJ (in) "Output Current Full-Scale Adjust", 61 SDR_EN (in) "Single Data Rate Mode Enable", 80 SPI_DIS (in) "Serial Port Interface Disable"
part C pins: 1 CLKVDD (power) "Clock Supply Voltage", 3 CLKVDD (power) "Clock Supply Voltage", 4 CLKGND (power) "Clock Supply Common", 7 CLKGND (power) "Clock Supply Common", 8 DGND (power) "Digital Supply Common", 9 DVDD (power) "Digital Supply Voltage", 20 DBVDD (power) "Data Bus Supply Voltage", 21 DBGND (power) "Data Bus Supply Common", 30 DBVDD (power) "Data Bus Supply Voltage", 31 DBGND (power) "Data Bus Supply Common", 40 DBVDD (power) "Data Bus Supply Voltage", 41 DBGND (power) "Data Bus Supply Common", 52 DVDD (power) "Digital Supply Voltage", 53 DGND (power) "Digital Supply Common", 62 ADVDD (power) "Analog Supply Voltage", 63 ADGND (power) "Analog Supply Common", 64 ACVDD (power) "Analog Supply Voltage", 65 ACGND (power) "Analog Supply Common", 66 AVDD2 (power) "Analog Supply Voltage", 67 AGND2 (power) "Analog Supply Common", 68 AVDD1 (power) "Analog Supply Voltage", 69 AGND1 (power) "Analog Supply Common", 72 AGND1 (power) "Analog Supply Common", 73 AVDD1 (power) "Analog Supply Voltage", 74 AGND2 (power) "Analog Supply Common", 75 AVDD2 (power) "Analog Supply Voltage", 76 ACGND (power) "Analog Supply Common", 77 ACVDD (power) "Analog Supply Voltage", 78 ADGND (power) "Analog Supply Common", 79 ADVDD (power) "Analog Supply Voltage", 81 EP (power) "Analog Ground. Serves as an electrical connection to the substrate of the die and should be connected to ground for electrical and thermal purposes."

## AD9726BSVZRL
designator U?
Single 16-Bit Digital-to-Analog Converter, -40 to +85 degC, SV-80-1, Pb-Free, Reel; Generic Part Number: AD9726; Manufacturer: Analog Devices; PartNumber: AD9726BSVZRL; # DAC Outputs: 1; Max V+: +3.47V; Op Pwr Diss: 652mW; Resolution (Bits): 16; Settling Time: 10.5ns; Single Supply: No; DatasheetVersion: Rev.B; PackageVersion: Oct-2005; PackageReference: SV-80-1; PackageDescription: 80-Lead Thin Quad Flat Package, Exposed Pad [TQFP_EP]; Supplier 1: Digi-Key; Supplier Part Number 1: AD9726BSVZRL-ND; Supplier 2: Mouser; Supplier Part Number 2: 584-AD9726BSVZR; Packing: Reel; RoHS: Y; Mounting Technology: Surface Mount; Code_JEDEC: MS-026-ADD-HD; ComponentLink1Description: Manufacturer URL; ComponentLink1URL: http://www.analog.com/en/index.html; ComponentLink2Description: Datasheet; ComponentLink2URL: http://www.analog.com/static/imported-files/data_sheets/AD9726.pdf; ComponentLink3Description: Package Specification; ComponentLink3URL: http://www.analog.com/static/imported-files/packages/3250240192292635369SV_80_1.pdf; ComponentLink4Description: Product URL; ComponentLink4URL: http://www.analog.com/en/digital-to-analog-converters/da-converters/ad9726/products/product.html
footprint SV-80-1_N (Thin QFP, 80-Leads, Body 12x12mm, Pitch 0.5mm, Thermal Pad 6x6mm, IPC Medium Density)
footprint SV-80-1_L (Thin QFP, 80-Leads, Body 12x12mm, Pitch 0.5mm, Thermal Pad 6x6mm, IPC High Density)
footprint SV-80-1_M (Thin QFP, 80-Leads, Body 12x12mm, Pitch 0.5mm, Thermal Pad 6x6mm, IPC Low Density)
part A pins: 10 DB15+ (in) "Data Bit 15 True", 11 DB15- (in) "Data Bit 15 Complement", 12 DB14+ (in) "Data Bit 14 True", 13 DB14- (in) "Data Bit 14 Complement", 14 DB13+ (in) "Data Bit 13 True", 15 DB13- (in) "Data Bit 13 Complement", 16 DB12+ (in) "Data Bit 12 True", 17 DB12- (in) "Data Bit 12 Complement", 18 DB11+ (in) "Data Bit 11 True", 19 DB11- (in) "Data Bit 11 Complement", 22 DB10+ (in) "Data Bit 10 True", 23 DB10- (in) "Data Bit 10 Complement", 24 DB9+ (in) "Data Bit 9 True", 25 DB9- (in) "Data Bit 9 Complement", 26 DB8+ (in) "Data Bit 8 True", 27 DB8- (in) "Data Bit 8 Complement", 34 DB7+ (in) "Data Bit 7 True", 35 DB7- (in) "Data Bit 7 Complement", 36 DB6+ (in) "Data Bit 6 True", 37 DB6- (in) "Data Bit 6 Complement", 38 DB5+ (in) "Data Bit 5 True", 39 DB5- (in) "Data Bit 5 Complement", 42 DB4+ (in) "Data Bit 4 True", 43 DB4- (in) "Data Bit 4 Complement", 44 DB3+ (in) "Data Bit 3 True", 45 DB3- (in) "Data Bit 3 Complement", 46 DB2+ (in) "Data Bit 2 True", 47 DB2- (in) "Data Bit 2 Complement", 48 DB1+ (in) "Data Bit 1 True", 49 DB1- (in) "Data Bit 1 Complement", 50 DB0+ (in) "Data Bit 0 True", 51 DB0- (in) "Data Bit 0 Complement", 70 IOUTB (out) "Analog Current Output Complement", 71 IOUTA (out) "Analog Current Output True"
part B pins: 2 REXT (in) "Sets Data Clock Output Drive", 5 CLK+ (in) "DAC Clock Input True", 6 CLK- (in) "DAC Clock Input Complement", 28 DCLK_OUT+ (out) "Data Clock Output True", 29 DCLK_OUT- (out) "Data Clock Output Complement", 32 DCLK_IN+ (in) "Data Clock Input True", 33 DCLK_IN- (in) "Data Clock Input Complement", 54 SDO (SYNCALRM) (hiz) "SPI Data Output (SYNCALRM)", 55 SDIO (io) "SPI Data Input/Output", 56 SCLK (SYNCUPD) (in) "SPI Clock Input (SYNCUPD)", 57 CSB (in) "SPI Chip Select Bar (Active Low)", 58 RESET (in) "Hardware Reset (Active High)", 59 REFIO (io) "Internal Reference Input/Output", 60 FSADJ (in) "Output Current Full-Scale Adjust", 61 SDR_EN (in) "Single Data Rate Mode Enable", 80 SPI_DIS (in) "Serial Port Interface Disable"
part C pins: 1 CLKVDD (power) "Clock Supply Voltage", 3 CLKVDD (power) "Clock Supply Voltage", 4 CLKGND (power) "Clock Supply Common", 7 CLKGND (power) "Clock Supply Common", 8 DGND (power) "Digital Supply Common", 9 DVDD (power) "Digital Supply Voltage", 20 DBVDD (power) "Data Bus Supply Voltage", 21 DBGND (power) "Data Bus Supply Common", 30 DBVDD (power) "Data Bus Supply Voltage", 31 DBGND (power) "Data Bus Supply Common", 40 DBVDD (power) "Data Bus Supply Voltage", 41 DBGND (power) "Data Bus Supply Common", 52 DVDD (power) "Digital Supply Voltage", 53 DGND (power) "Digital Supply Common", 62 ADVDD (power) "Analog Supply Voltage", 63 ADGND (power) "Analog Supply Common", 64 ACVDD (power) "Analog Supply Voltage", 65 ACGND (power) "Analog Supply Common", 66 AVDD2 (power) "Analog Supply Voltage", 67 AGND2 (power) "Analog Supply Common", 68 AVDD1 (power) "Analog Supply Voltage", 69 AGND1 (power) "Analog Supply Common", 72 AGND1 (power) "Analog Supply Common", 73 AVDD1 (power) "Analog Supply Voltage", 74 AGND2 (power) "Analog Supply Common", 75 AVDD2 (power) "Analog Supply Voltage", 76 ACGND (power) "Analog Supply Common", 77 ACVDD (power) "Analog Supply Voltage", 78 ADGND (power) "Analog Supply Common", 79 ADVDD (power) "Analog Supply Voltage", 81 EP (power) "Analog Ground. Serves as an electrical connection to the substrate of the die and should be connected to ground for electrical and thermal purposes."